# EAGLE library part CAN-INTERFACE-EXTENDED (library can-interface)
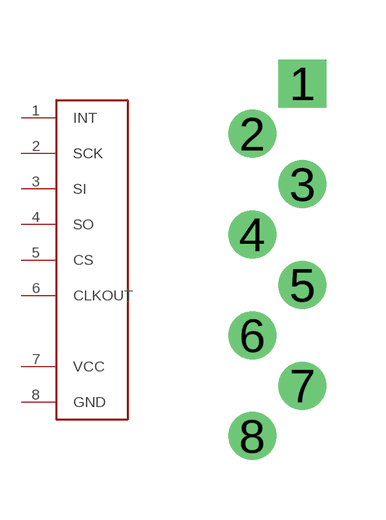
[diagram p1: symbol with the pads of VIA-LIST-EXTENDED; footprint VIA-LIST-EXTENDED]

Designator prefix -

## CAN-INTERFACE-EXTENDED  [VIA-LIST-EXTENDED]
1  INT
2  SCK
3  SI
4  SO
5  CS
6  CLKOUT
7  VCC
8  GND

## Footprint VIA-LIST-EXTENDED (pad centres in mm)
drill 0.7 square: 1 0,2.54
drill 0.7 round: 2 -1.27,1.27; 3 0,0; 4 -1.27,-1.27; 5 0,-2.54; 6 -1.27,-3.81; 7 0,-5.08; 8 -1.27,-6.35